# Altium footprint library TrenchFET.PcbLib: 2 footprints
Each footprint in its own frame and in the unit in brackets; x right, y up, seen from the top. Pads: shape width x height; smd on the part's side, far side on the other; paste and mask are expansions set on the pad; w line width, h text height; cw(c..) or ccw(c..) is an arc to the next point about the centre after c.
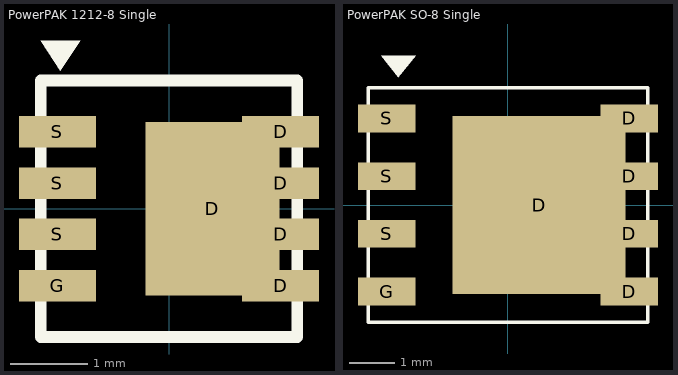
[diagram p0: the footprints below, top view; thin cyan lines are the x and y axes]

## PowerPAK 1212-8 Single [mil] "Vishay PowerPAK 1212-8 Single End"
pads (9):
  rect 68x88 smd: D(22,0)
  rect 39x16 smd: D(56.5,-39) D(56.5,-13) D(56.5,13) D(56.5,39) G(-56.5,-39) S(-56.5,-13) S(-56.5,13) S(-56.5,39)
Top Overlay:
  region: -65,85 -55,70 -45,85
  lines w6: -65,-65 65,-65 65,65 -65,65 -65,-65
3D body: height 41, standoff 0, extent -65,-65 65,65

## PowerPAK SO-8 Single [mil] "Vishay PowerPAK SO-8 Single End"
pads (9):
  rect 150x154 smd: D(27,0)
  rect 50x24 smd: D(105,-75) D(105,-25) D(105,25) D(105,75) G(-105,-75) S(-105,-25) S(-105,25) S(-105,75)
Top Overlay:
  region: -110,129.25 -80,129.25 -95,110.75
  lines w3: -121,-101.5 -121,101.5 121,101.5 121,-101.5 -121,-101.5
3D body: height 41, standoff 0, extent -121,-101.5 121,101.5